# Altium schematic symbol library PC817B.SchLib: 1 symbol
Pins are listed as number, name and electrical type; pins without a type are passive.

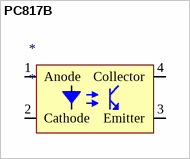
[diagram p0: symbol PC817B]

## PC817B
designator *
pins: 1 Anode, 2 Cathode, 3 Emitter, 4 Collector